# Altium footprint library ELCAP_D10_H20_P5.PcbLib: 1 footprints
Each footprint in its own frame and in the unit in brackets; x right, y up, seen from the top. Pads: shape width x height; smd on the part's side, far side on the other; paste and mask are expansions set on the pad; w line width, h text height; cw(c..) or ccw(c..) is an arc to the next point about the centre after c.
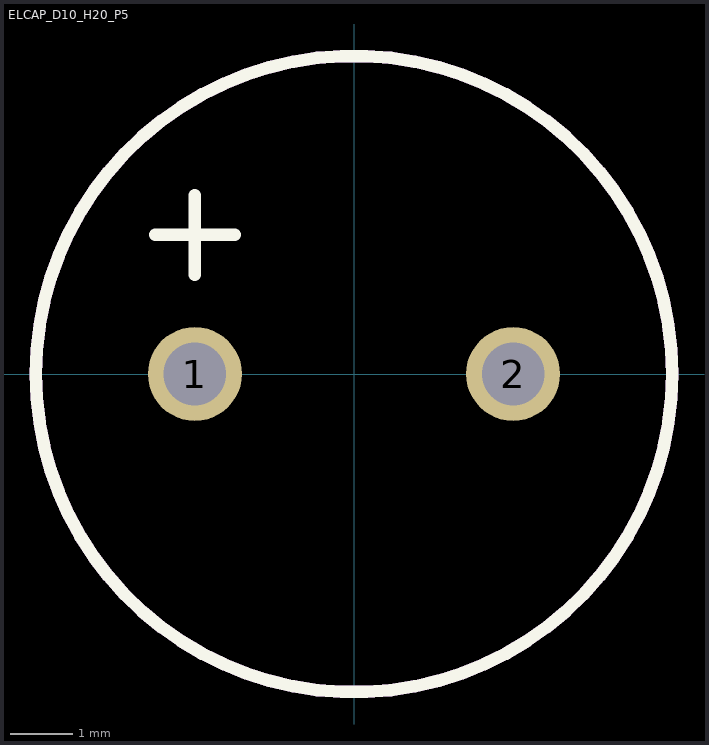
[diagram p0: the footprint, top view; thin cyan lines are the x and y axes]

## ELCAP_D10_H20_P5 [mm]
pads (2):
  round 1.5 hole 1: 1(-2.54,0) 2(2.54,0)
Top Overlay:
  circle w0.2: c0,0 r5.08
  lines w0.2: -3.175,2.222 -1.905,2.222 ; -2.54,1.587 -2.54,2.857
TopAssy:
  circle w0.2: c0,0 r5.08
  lines w0.2: -3.175,0 -1.905,0 ; -2.54,-0.635 -2.54,0.635
3D body "User Library-Cap electro 10x20x5_0mm.STEP": height 20.53, standoff -3.74, extent -5.025,-5.025 5.026,5.026